# EAGLE library part AD9866BCPZ (library ad9866)
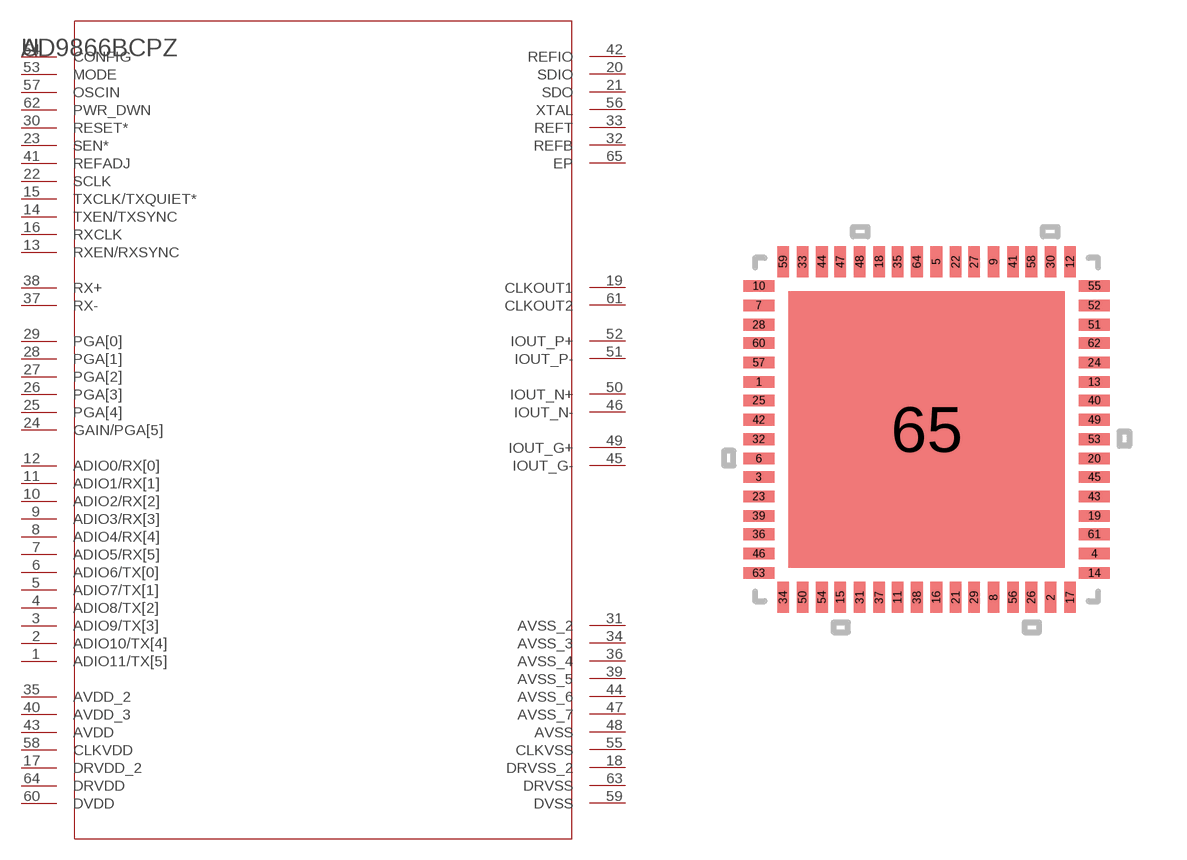
[diagram p0: symbol with the pads of CP_64_3; footprint CP_64_3]

Designator prefix U

## AD9866BCPZ (MANUFACTURER_PART_NUMBER: AD9866BCPZ; VENDOR: Vendor)  [CP_64_3]
1  ADIO11/TX[5]  pas
2  ADIO10/TX[4]  pas
3  ADIO9/TX[3]  pas
4  ADIO8/TX[2]  pas
5  ADIO7/TX[1]  pas
6  ADIO6/TX[0]  pas
7  ADIO5/RX[5]  pas
8  ADIO4/RX[4]  pas
9  ADIO3/RX[3]  pas
10  ADIO2/RX[2]  pas
11  ADIO1/RX[1]  pas
12  ADIO0/RX[0]  pas
13  RXEN/RXSYNC  pas
14  TXEN/TXSYNC  pas
15  TXCLK/TXQUIET*  pas
16  RXCLK  pas
17  DRVDD_2  pwr
18  DRVSS_2  pas
19  CLKOUT1  pas
20  SDIO  pas
21  SDO  pas
22  SCLK  pas
23  SEN*  pas
24  GAIN/PGA[5]  pas
25  PGA[4]  pas
26  PGA[3]  pas
27  PGA[2]  pas
28  PGA[1]  pas
29  PGA[0]  pas
30  RESET*  pas
31  AVSS_2  pas
32  REFB  pas
33  REFT  pas
34  AVSS_3  pas
35  AVDD_2  pwr
36  AVSS_4  pas
37  RX-  pas
38  RX+  pas
39  AVSS_5  pas
40  AVDD_3  pwr
41  REFADJ  pas
42  REFIO  pas
43  AVDD  pwr
44  AVSS_6  pas
45  IOUT_G-  pas
46  IOUT_N-  pas
47  AVSS_7  pas
48  AVSS  pas
49  IOUT_G+  pas
50  IOUT_N+  pas
51  IOUT_P-  pas
52  IOUT_P+  pas
53  MODE  pas
54  CONFIG  pas
55  CLKVSS  pas
56  XTAL  pas
57  OSCIN  pas
58  CLKVDD  pwr
59  DVSS  pas
60  DVDD  pwr
61  CLKOUT2  pas
62  PWR_DWN  pas
63  DRVSS  pas
64  DRVDD  pwr
65  EP  pas

## Footprint CP_64_3 (pad centres in mm)
smd 0.813 x 0.305: 1 -4.394,1.245; 3 -4.394,-1.245; 4 4.394,-3.251; 6 -4.394,-0.762; 7 -4.394,3.251; 10 -4.394,3.759; 13 4.394,1.245; 14 4.394,-3.759; 19 4.394,-2.261; 20 4.394,-0.762; 23 -4.394,-1.753; 24 4.394,1.753; 25 -4.394,0.762; 28 -4.394,2.743; 32 -4.394,-0.254; 36 -4.394,-2.743; 39 -4.394,-2.261; 40 4.394,0.762; 42 -4.394,0.254; 43 4.394,-1.753; 45 4.394,-1.245; 46 -4.394,-3.251; 49 4.394,0.254; 51 4.394,2.743; 52 4.394,3.251; 53 4.394,-0.254; 55 4.394,3.759; 57 -4.394,1.753; 60 -4.394,2.261; 61 4.394,-2.743; 62 4.394,2.261; 63 -4.394,-3.759
smd 0.305 x 0.813: 2 3.251,-4.394; 5 0.254,4.394; 8 1.753,-4.394; 9 1.753,4.394; 11 -0.762,-4.394; 12 3.759,4.394; 15 -2.261,-4.394; 16 0.254,-4.394; 17 3.759,-4.394; 18 -1.245,4.394; 21 0.762,-4.394; 22 0.762,4.394; 26 2.743,-4.394; 27 1.245,4.394; 29 1.245,-4.394; 30 3.251,4.394; 31 -1.753,-4.394; 33 -3.251,4.394; 34 -3.759,-4.394; 35 -0.762,4.394; 37 -1.245,-4.394; 38 -0.254,-4.394; 41 2.261,4.394; 44 -2.743,4.394; 47 -2.261,4.394; 48 -1.753,4.394; 50 -3.251,-4.394; 54 -2.743,-4.394; 56 2.261,-4.394; 58 2.743,4.394; 59 -3.759,4.394; 64 -0.254,4.394
smd 7.239 x 7.239: 65 0,0